# Altium footprint library HIR204C.PcbLib: 1 footprints
Each footprint in its own frame and in the unit in brackets; x right, y up, seen from the top. Pads: shape width x height; smd on the part's side, far side on the other; paste and mask are expansions set on the pad; w line width, h text height; cw(c..) or ccw(c..) is an arc to the next point about the centre after c.
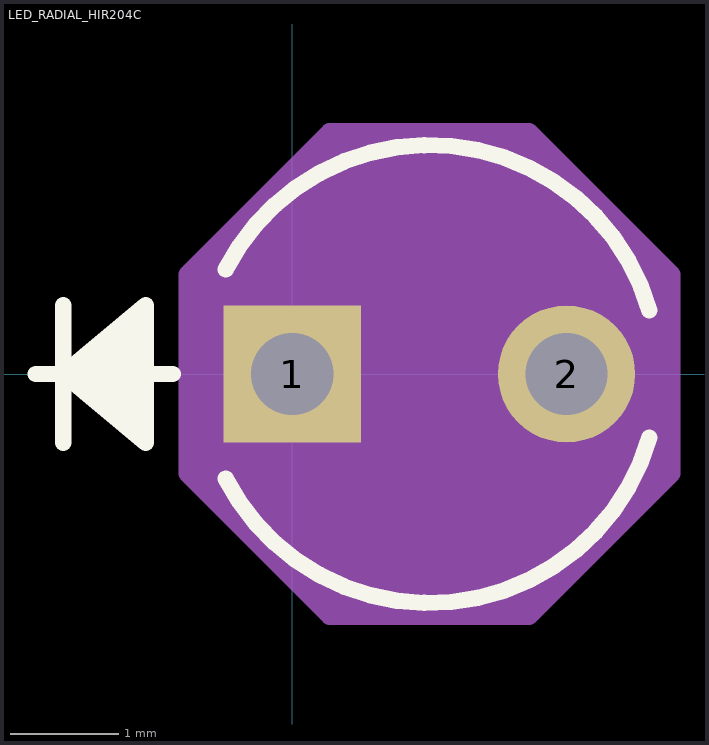
[diagram p0: the footprint, top view; thin cyan lines are the x and y axes]

## LED_RADIAL_HIR204C [mil]
pads (2):
  rect 50x50 / inner round 60 / far side rect 50x50 hole 30 paste-99999 mask+0: 1(0,0)
  round 50 / inner round 60 / far side round 50 hole 30 paste-99999 mask+0: 2(100,0)
Top Overlay:
  lines w6: -93.5,0 -43.5,0 ; -83.5,-25 -83.5,25 ; -53.5,-20 -83.5,0 ; -53.5,-15 -83.5,0 ; -53.5,-10 -83.5,0 ; -53.5,-5 -83.5,0 ; -53.5,5 -83.5,0 ; -53.5,10 -83.5,0 ; -53.5,15 -83.5,0 ; -53.5,20 -83.5,0 ; -24.3,-38.1 ccw(c50,0) 130.21,-23.22 ; -24.3,38.1 cw(c50,0) 130.21,23.22 ; -83.5,0 -53.5,-25 -53.5,25 -83.5,0
Mechanical 13:
  circle w0: c50,0 r78.5
  lines w1: -93.5,0 -43.5,0 ; -83.5,-25 -83.5,25 ; -53.5,-20 -83.5,0 ; -53.5,-15 -83.5,0 ; -53.5,-10 -83.5,0 ; -53.5,-5 -83.5,0 ; -53.5,5 -83.5,0 ; -53.5,10 -83.5,0 ; -53.5,15 -83.5,0 ; -53.5,20 -83.5,0 ; -83.5,0 -53.5,-25 -53.5,25 -83.5,0
Mechanical 15:
  region: -38.5,36.44 13.56,88.5 86.44,88.5 138.5,36.44 138.5,-36.44 86.44,-88.5 13.56,-88.5 -38.5,-36.44
  lines w6: -38.5,-36.44 -38.5,36.44 13.56,88.5 86.44,88.5 138.5,36.44 138.5,-36.44 86.44,-88.5 13.56,-88.5 -38.5,-36.44
3D body "LED_RADIAL_SSL-LX3052YD_LUM.step": height 206.61, standoff -160, extent -28.94,-78.38 128.04,78.38